# EAGLE library part MPXA6116 (library Stofer)
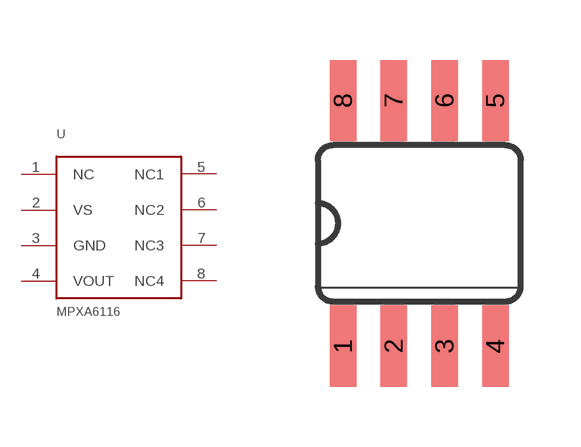
[diagram p11: symbol with the pads of SO08; footprint SO08]

Designator prefix -

## MPXA6116  [SO08]
1  NC
2  VS
3  GND
4  VOUT
5  NC1
6  NC2
7  NC3
8  NC4

## Footprint SO08 (pad centres in mm)
Small Outline Package
smd 0.66 x 2.032: 1 -1.905,-3.073; 2 -0.635,-3.073; 3 0.635,-3.073; 4 1.905,-3.073; 5 1.905,3.073; 6 0.635,3.073; 7 -0.635,3.073; 8 -1.905,3.073